# Altium schematic symbol library Chip_Tester.SchLib: 40 symbols
Pins are listed as number, name and electrical type; pins without a type are passive.

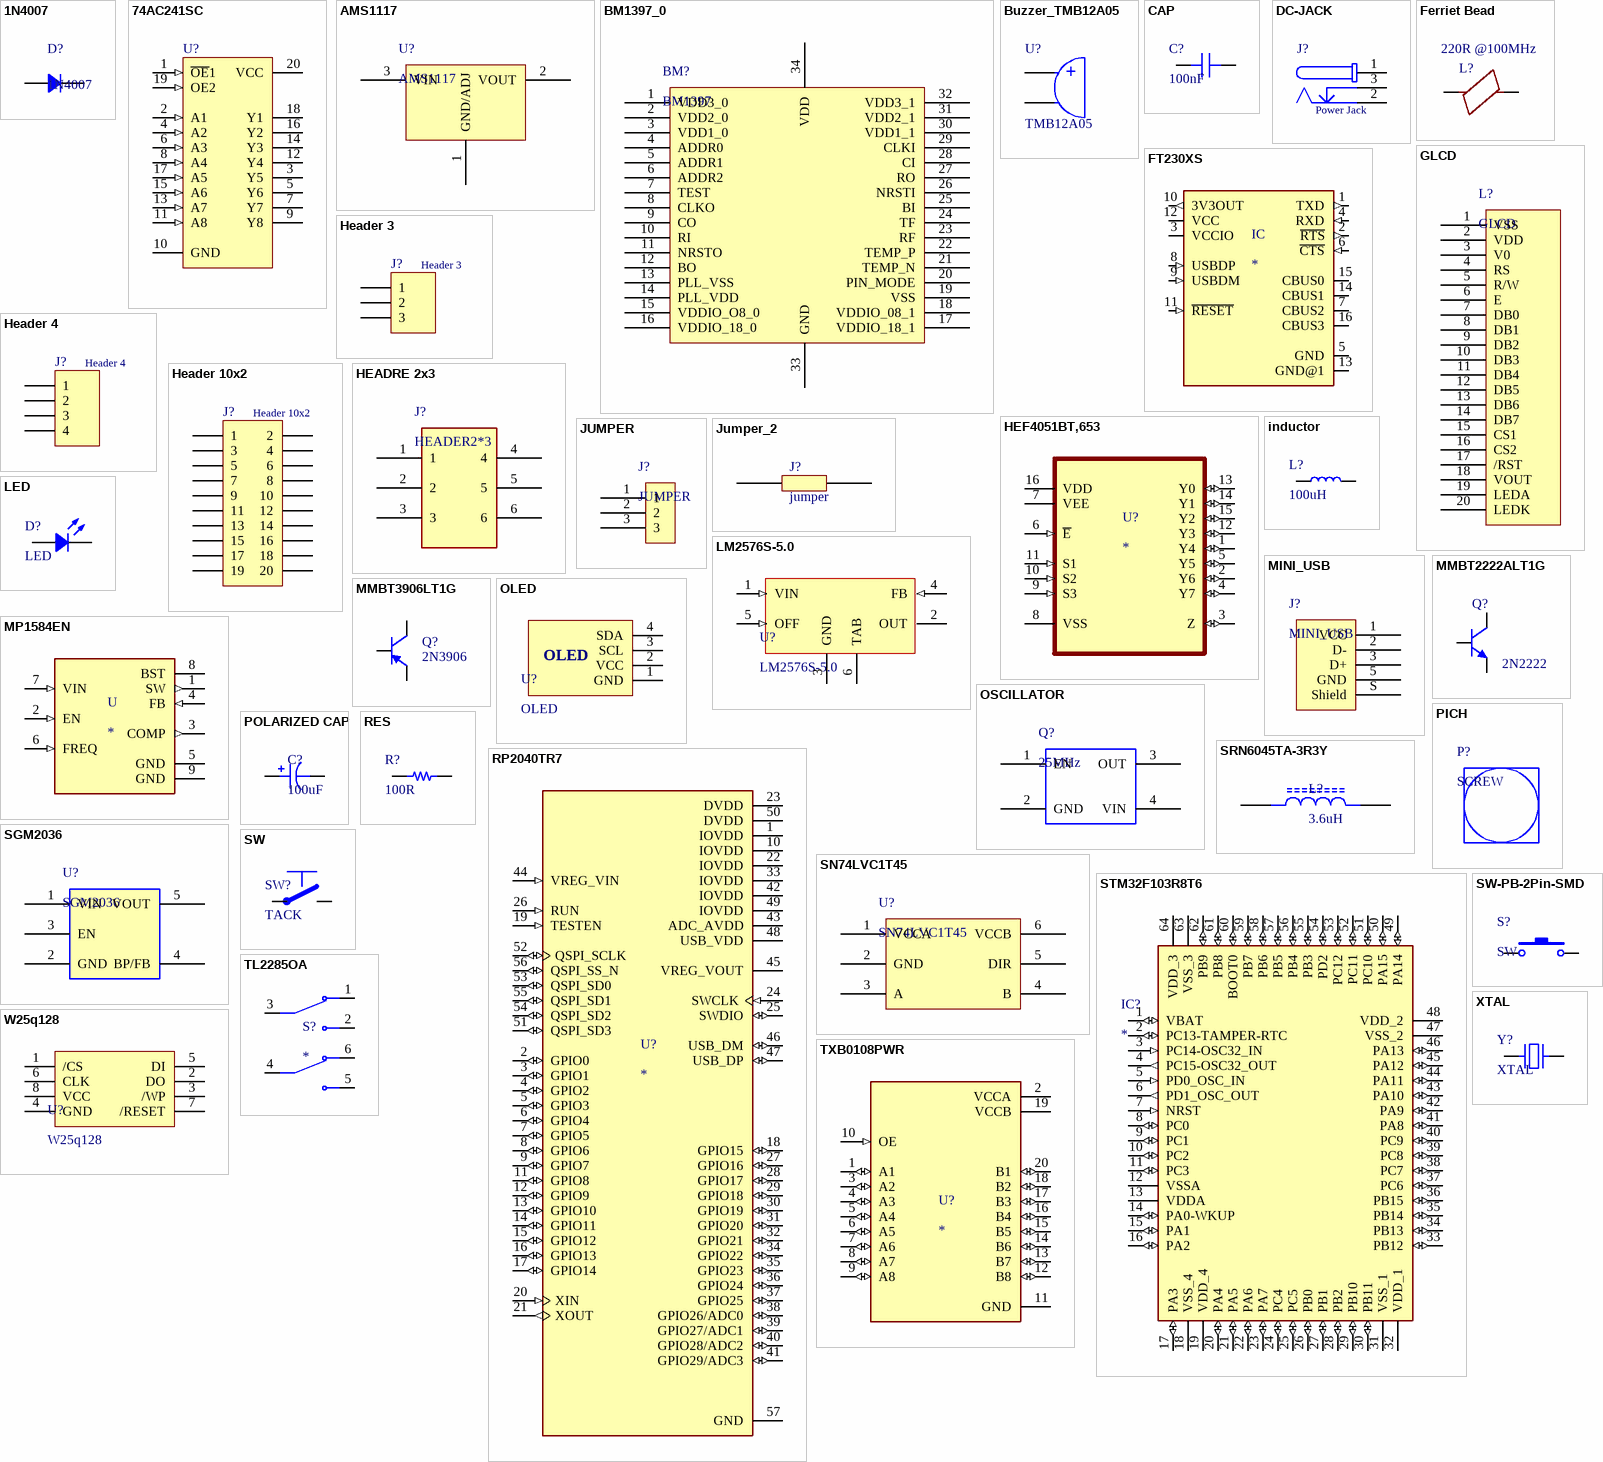
[diagram p0: symbols 1N4007 to XTAL]

## 1N4007
designator D?
footprint m7
pins: 1, 2

## 74AC241SC
designator U?
Octal Buffer/Line Driver with 3-State Output; Published: 17-Jul-2002; LatestRevisionDate: 13-Apr-2006; LatestRevisionNote: IPC-7351 Footprint Added.; DatasheetVersion: Nov-1999; PackageVersion: 2000; PackageReference: M20B; Publisher: Altium Limited; PackageDescription: 20-Pin Small Outline Integrated Circuit 1.27 mm Pitch; Code_JEDEC: MS-013-AC; Code_IPC: SOIC127P1030-20; ComponentLink1Description: Manufacturer Link; ComponentLink1URL: http://www.fairchildsemi.com/; ComponentLink2Description: Datasheet; ComponentLink2URL: http://www.fairchildsemi.com/ds/74%2F74AC241.pdf
footprint INTERSIL SOIC-20 WIDE (SOIC, 20-Leads, Body 12.80x7.50mm, Pitch 1.27mm, IPC Medium Density)
pins: 1 ~{OE}1 (in), 2 A1 (in), 3 Y5 (hiz), 4 A2 (in), 5 Y6 (hiz), 6 A3 (in), 7 Y7 (hiz), 8 A4 (in), 9 Y8 (hiz), 10 GND (power), 11 A8 (in), 12 Y4 (hiz), 13 A7 (in), 14 Y3 (hiz), 15 A6 (in), 16 Y2 (hiz), 17 A5 (in), 18 Y1 (hiz), 19 OE2 (in), 20 VCC (power)

## AMS1117
designator U?
AMS1117 1A LOW DROPOUT VOLTAGE REGULATOR
footprint AMS1117
pins: 1 GND/ADJ "Ground or Adjust", 2 VOUT "Voltage Output", 3 VIN "Voltage Input"

## BM1397_0
designator BM?, comment BM1397
footprint AllSocket
pins: 1 VDD3_0, 2 VDD2_0, 3 VDD1_0, 4 ADDR0, 5 ADDR1, 6 ADDR2, 7 TEST, 8 CLKO, 9 CO, 10 RI, 11 NRSTO, 12 BO, 13 PLL_VSS, 14 PLL_VDD, 15 VDDIO_O8_0, 16 VDDIO_18_0, 17 VDDIO_18_1, 18 VDDIO_08_1, 19 VSS, 20 PIN_MODE, 21 TEMP_N, 22 TEMP_P, 23 RF, 24 TF, 25 BI, 26 NRSTI, 27 RO, 28 CI, 29 CLKI, 30 VDD1_1, 31 VDD2_1, 32 VDD3_1, 33 GND, 34 VDD

## Buzzer_TMB12A05
designator U?, comment TMB12A05
Integrated Buzzer; Link to Datasheet: *; Link to Picture: *; Manufacturer: http://www.ehuaxing.com/; Operating Temp: -30°C ~ 75°C; Storage Temp: -40°C ~ 85°C; ComponentLink1URL: *; ComponentLink1Description: *; Manufacture Part #: TMB12A05; Value: TMB12A05
footprint BUZZER_TMB12A05 (Integrated Buzzer)
pins: 1, 2
text: +

## CAP
designator C?, comment 100nF
footprint CAP_SMD_0805
footprint CAP-SMD-0603
footprint CAP-SMD-0402
footprint CAP-SMD-1206
pins: 1, 2

## DC-JACK
designator J?, comment Power Jack
DC Power Jack Connector Low Profile with 4 soldering pads; Gender: Male; Plug Inner Diameter: 1.05 mm; Plug Outer Diameter: 3.5 mm; Rated Current: 5 A; Working Voltage: 18 V; Orientation: Right Angled; Operating Temperature: -40 to 85 degC; Mounting Technology: SMT
footprint DC-Jack-THT-RA-6.4 (DC Power Jack Right Angled(6.4))
pins: 1, 2, 3

## Ferriet Bead
designator L?, comment 220R @100MHz
General Porpose Ferriet Bead; Manufacturer: Murata; Tolerance: ±25%; Pakaging: *; ComponentLink1Description: *; ComponentLink1URL: *; Link to Datasheet: *; Link to Picture: *; Value: 220R @100MHz
footprint 0805_FB (Ferrite Bead)
pins: 1, 2

## FT230XS
designator IC
USB Bridge, USB to UART USB 2.0 UART Interface 16-SSOP; MP: FT230XS; MF: FTDI, Future; Price: None; Availability: Unavailable; Package: SSOP-16 FTDI; SnapEDA_Link: https://www.snapeda.com/parts/FT230XS/FTDI%2C%20Future%20Technology%20Devices%20International%20Ltd/view-part/433817/?ref=snap; Value: *
footprint SSOP16
pins: 1 TXD (out), 2 ~{RTS} (out), 3 VCCIO (power), 4 RXD (in), 5 GND (power), 6 ~{CTS} (in), 7 CBUS2 (io), 8 USBDP (in), 9 USBDM (in), 10 3V3OUT (out), 11 ~{RESET} (in), 12 VCC (power), 13 GND@1 (power), 14 CBUS1 (io), 15 CBUS0 (io), 16 CBUS3 (io)

## GLCD
designator L?
footprint LCD
pins: 1 VSS, 2 VDD, 3 V0, 4 RS, 5 R/W, 6 E, 7 DB0, 8 DB1, 9 DB2, 10 DB3, 11 DB4, 12 DB5, 13 DB6, 14 DB7, 15 CS1, 16 CS2, 17 /RST, 18 VOUT, 19 LEDA, 20 LEDK

## Header 3
designator J?
Header, single row, 3 pin
footprint HDR_THT_3M_2.54mm - duplicate (Pin Header, pitch 2.54 mm, THT, Vertical, single row, 3p)
pins: 1, 2, 3

## Header 4
designator J?
Header, single row, 4 pin
footprint HDR_THT_4M_2.54mm (Pin Header, pitch 2.54 mm, THT, Vertical, single row, 4p)
pins: 1, 2, 3, 4

## Header 10x2
designator J?
Header, dual row, 20 pin
footprint HDR_THT_10x2M_2.54mm (Pin Header, pitch 2.54 mm, THT, Vertical, dual row, 20p)
pins: 1, 2, 3, 4, 5, 6, 7, 8, 9, 10, 11, 12, 13, 14, 15, 16, 17, 18, 19, 20

## HEADRE 2x3
designator J?, comment HEADER2*3
footprint HEADER 2x3
pins: 1, 2, 3, 4, 5, 6

## HEF4051BT,653
designator U?
4000B Series 3 - 15 V 8-Ch Analog Multiplexer/Demultiplexer - SOIC-16; MF: Nexperia USA; MP: HEF4051BT,653; Value: *; Purchase-URL: https://pricing.snapeda.com/search/part/HEF4051BT,653/?ref=eda; Price: None; SnapEDA_Link: https://www.snapeda.com/parts/HEF4051BT,653/Nexperia/view-part/462214/?ref=snap; Check_prices: https://www.snapeda.com/parts/HEF4051BT,653/Nexperia/view-part/462214/?ref=eda; Availability: In Stock; Package: SO-16 Nexperia USA Inc.
footprint SOIC127P600X175-16N
pins: 1 Y4 (io), 2 Y6 (io), 3 Z (io), 4 Y7 (io), 5 Y5 (io), 6 ~{E} (in), 7 VEE (power), 8 VSS, 9 S3 (in), 10 S2 (in), 11 S1 (in), 12 Y3 (io), 13 Y0 (io), 14 Y1 (io), 15 Y2 (io), 16 VDD (power)

## inductor
designator L?, comment 100uH
footprint inductor
pins: 1, 2

## JUMPER
designator J?
footprint JUMPER_dip
pins: 1, 2, 3

## Jumper_2
designator J?, comment jumper
footprint jumper_2pin
pins: 1, 2

## LED
designator D?
footprint LED_0805_RED (Surface mount LED 0805)
pins: 1, 2

## LM2576S-5.0
designator U?
SIMPLE SWITCHER® 40V, 3A Low Component Count Step-Down Regulator 5-DDPAK/TO-263 -40 to 125; Manufacturer: TI National Semiconductor; Manufacturer Part Number: LM2576S-5.0/NOPB; Min Supply Voltage: 4V; Number of Outputs: 1; Output Voltage: 5V; Frequency: 52kHz; Switching Frequency: 58kHz; Efficiency: 77%; Quiescent Current: 5mA; Output Type: Fixed; Supplier 1: Digi-Key; RoHS: Yes; Category: Voltage Regulators - Switching; Stock 1: 747; Pricing 1: 1=4.79000, 10=4.30600, 25=4.07120, 100=3.52840, 250=3.34744, 500=3.00364, 1000=2.98725 (USD); Mount: Surface Mount; Case/Package: TO-263; Number of Pins: 5; Weight: 0.25lb; Contact Plating: Tin,Matte; Min Operating Temperature: -40°C; Max Operating Temperature: 125°C; Max Supply Voltage: 40V; Max Output Current: 3A; Packaging: Rail/Tube; Min Input Voltage: 4V; Max Input Voltage: 40V; Output Current: 3A; Package Quantity: 45; Nominal Output Voltage: 5V; Max Output Voltage: 5V; Termination: SMD/SMT; Series: LM2576; Length: 10.16mm; Width: 8.64mm; Height: 4.57mm; Radiation Hardening: No; REACH SVHC: No SVHC; Lead Free: Contains Lead; RoHS Compliant: Yes; ComponentLink1URL: https://datasheet.ciiva.com/27050/894690-27050690.pdf?src-supplier=Jameco; ComponentLink1Description: https://datasheet.ciiva.com/27050/894690-27050690.pdf?src-supplier=Jameco; ComponentLink2URL: https://datasheet.ciiva.com/15112/getdatasheetpartid-89880-15112831.pdf?src-supplier=Verical; ComponentLink2Description: https://datasheet.ciiva.com/15112/getdatasheetpartid-89880-15112831.pdf?src-supplier=Verical; ComponentLink3URL: https://datasheet.ciiva.com/6596/lm2576hv-6596629.pdf?src-supplier=Digi-Key; ComponentLink3Description: https://datasheet.ciiva.com/6596/lm2576hv-6596629.pdf?src-supplier=Digi-Key; ComponentLink4URL: https://datasheet.ciiva.com/16466/lm2576-16466309.pdf?src-supplier=Avnet+Asia; ComponentLink4Description: https://datasheet.ciiva.com/16466/lm2576-16466309.pdf?src-supplier=Avnet+Asia; ComponentLink5URL: https://datasheet.ciiva.com/7994/1849802-7994190.pdf?src-supplier=Element14; ComponentLink5Description: https://datasheet.ciiva.com/7994/1849802-7994190.pdf?src-supplier=Element14; Supplier Part Number 1: LM2576S-5.0/NOPB-ND
footprint LM2576
pins: 1 VIN (in), 2 OUT (power), 3 GND (power), 4 FB (in), 5 OFF (in), 6 TAB

## MINI_USB
designator J?
footprint Mini_usb
pins: 1 VCC, 2 D-, 3 D+, 5 GND, S Shield

## MMBT2222ALT1G
designator Q?, comment 2N2222
NPN General Purpose Amplifier; Manufacturer: FAIRCHILD; Manufacture Part #: MMBT2222ALT1G; Link to Datasheet: *; Link to Picture: *; Operating Temp: -55 TO 150 °C; Storage Temp: -55 TO 150 °C; ComponentLink1URL: *; ComponentLink1Description: *; Value: 2N2222
footprint SOT-23_H (SOT23, 3-Leads, Body 2.9x1.3mm, Pitch 0.95mm, Lead Span 2.5mm, IPC Medium Density)
pins: 1 B, 2 E, 3 C

## MMBT3906LT1G
designator Q?, comment 2N3906
PNP General Purpose Amplifier; Manufacturer: ON Semiconductor; Manufacture Part #: MMBT3906LT1G; Link to Datasheet: *; Link to Picture: *; Operating Temp: -55 ~ 150 °C; Storage Temp: -55 ~ 150 °C; ComponentLink1Description: *; ComponentLink1URL: *; Value: 2N3906
footprint SOT-23_H (SOT23, 3-Leads, Body 2.9x1.3mm, Pitch 0.95mm, Lead Span 2.5mm, IPC Medium Density)
pins: 1 B, 2 E, 3 C

## MP1584EN
designator U
Buck Switching Regulator IC Positive Adjustable 0.8V 1 Output 3A 8-SOIC _0.154, 3.90mm Width_ Exposed Pad; MP: MP1584EN; MF: Monolithic Power; Value: *; Package: SOIC-8 Monolithic Power; SnapEDA_Link: https://www.snapeda.com/parts/MP1584EN/Monolithic%20Power%20Systems%20Inc./view-part/891721/?ref=snap; Price: None; Availability: Unavailable
footprint SOIC127P600X170-9N
pins: 1 SW (out), 2 EN (in), 3 COMP (out), 4 FB (in), 5 GND (power), 6 FREQ (in), 7 VIN (in), 8 BST, 9 GND (power)

## OLED
designator U?
footprint OLED
pins: 1 GND, 2 VCC, 3 SCL, 4 SDA

## OSCILLATOR
designator Q?, comment 25MHz
footprint XTALL
pins: 1 EN, 2 GND, 3 OUT, 4 VIN

## PICH
designator P?, comment SCREW
footprint PICH

## POLARIZED CAP
designator C?, comment 100uF
footprint CAP-TAN-CASE-B
footprint CAP-TAN-CASE-E
footprint CAP-TAN-CASE-A
footprint CAP ALUM 10.3MM (Aluminum Electrolytic Capacitor, Body 10.30x10.30x10.50mm, IPC Low Density)
pins: 1, 2

## RES
designator R?, comment 100R
footprint RES-SMD-1210
footprint RES-SMD-1206
footprint RES-SMD-0402
footprint RES-SMD-0603
footprint RES-SMD-0805
pins: 1, 2

## RP2040TR7
designator U?
MCU, 32BIT, 133MHZ, QFN-56; Product Range:-; Architecture:ARM Cortex-M0+; No. of Bits:32bit; CPU Speed:133MHz; Program Memory Size:16MB; RAM Memory Size:264KB; No. of Pins:56Pins; MCU Case Style:QFN; No. of I/O s:30I/O s; MP: RP2040TR7; MF: Raspberry Pi; SnapEDA_Link: https://www.snapeda.com/parts/RP2040TR7/Raspberry+Pi/view-part/?ref=snap; Value: *; Availability: In Stock; Check_prices: https://www.snapeda.com/parts/RP2040TR7/Raspberry+Pi/view-part/?ref=eda; Package: None; Price: None
footprint RP2040-57N
pins: 1 IOVDD (power), 2 GPIO0 (io), 3 GPIO1 (io), 4 GPIO2 (io), 5 GPIO3 (io), 6 GPIO4 (io), 7 GPIO5 (io), 8 GPIO6 (io), 9 GPIO7 (io), 10 IOVDD (power), 11 GPIO8 (io), 12 GPIO9 (io), 13 GPIO10 (io), 14 GPIO11 (io), 15 GPIO12 (io), 16 GPIO13 (io), 17 GPIO14 (io), 18 GPIO15 (io), 19 TESTEN (in), 20 XIN (in), 21 XOUT (out), 22 IOVDD (power), 23 DVDD (power), 24 SWCLK (in), 25 SWDIO (io), 26 RUN (in), 27 GPIO16 (io), 28 GPIO17 (io), 29 GPIO18 (io), 30 GPIO19 (io), 31 GPIO20 (io), 32 GPIO21 (io), 33 IOVDD (power), 34 GPIO22 (io), 35 GPIO23 (io), 36 GPIO24 (io), 37 GPIO25 (io), 38 GPIO26/ADC0 (io), 39 GPIO27/ADC1 (io), 40 GPIO28/ADC2 (io), 41 GPIO29/ADC3 (io), 42 IOVDD (power), 43 ADC_AVDD (power), 44 VREG_VIN (in), 45 VREG_VOUT, 46 USB_DM (io), 47 USB_DP (io), 48 USB_VDD (power), 49 IOVDD (power), 50 DVDD (power), 51 QSPI_SD3 (io), 52 QSPI_SCLK (io), 53 QSPI_SD0 (io), 54 QSPI_SD2 (io), 55 QSPI_SD1 (io), 56 QSPI_SS_N (io), 57 GND (power)

## SGM2036
designator U?
footprint SOT23-5PIN
pins: 1 VIN, 2 GND, 3 EN, 4 BP/FB, 5 VOUT

## SN74LVC1T45
designator U?
footprint SOT23-6PIN
pins: 1 VCCA, 2 GND, 3 A, 4 B, 5 DIR, 6 VCCB

## SRN6045TA-3R3Y
designator L?, comment 3.6uH
3.3µH Semi-Shielded Wirewound Inductor 5A 21mOhm Nonstandard
footprint SRN6045TA
pins: 1, 2

## STM32F103R8T6
designator IC?
ARMÂ® CortexÂ®-M3 STM32F1 Microcontroller IC 32-Bit 72MHz 64KB (64K x 8) FLASH 64-LQFP (10x10); MF: STMicroelectronics; MP: STM32F103R8T6; Price: None; Package: LQFP-64 STMicroelectronics; Purchase-URL: https://pricing.snapeda.com/search/part/STM32F103R8T6/?ref=eda; Availability: In Stock; SnapEDA_Link: https://www.snapeda.com/parts/STM32F103R8T6/STMicroelectronics/view-part/?ref=snap; Value: *; Check_prices: https://www.snapeda.com/parts/STM32F103R8T6/STMicroelectronics/view-part/?ref=eda
footprint QFP50P1200X1200X160-64N
pins: 1 VBAT (io), 2 PC13-TAMPER-RTC (io), 3 PC14-OSC32_IN (in), 4 PC15-OSC32_OUT (out), 5 PD0_OSC_IN (in), 6 PD1_OSC_OUT (out), 7 NRST (in), 8 PC0 (io), 9 PC1 (io), 10 PC2 (io), 11 PC3 (io), 12 VSSA (power), 13 VDDA (power), 14 PA0-WKUP (io), 15 PA1 (io), 16 PA2 (io), 17 PA3 (io), 18 VSS_4 (power), 19 VDD_4 (power), 20 PA4 (io), 21 PA5 (io), 22 PA6 (io), 23 PA7 (io), 24 PC4 (io), 25 PC5 (io), 26 PB0 (io), 27 PB1 (io), 28 PB2 (io), 29 PB10 (io), 30 PB11 (io), 31 VSS_1 (power), 32 VDD_1 (power), 33 PB12 (io), 34 PB13 (io), 35 PB14 (io), 36 PB15 (io), 37 PC6 (io), 38 PC7 (io), 39 PC8 (io), 40 PC9 (io), 41 PA8 (io), 42 PA9 (io), 43 PA10 (io), 44 PA11 (io), 45 PA12 (io), 46 PA13 (io), 47 VSS_2 (power), 48 VDD_2 (power), 49 PA14 (io), 50 PA15 (io), 51 PC10 (io), 52 PC11 (io), 53 PC12 (io), 54 PD2 (io), 55 PB3 (io), 56 PB4 (io), 57 PB5 (io), 58 PB6 (io), 59 PB7 (io), 60 BOOT0 (io), 61 PB8 (io), 62 PB9 (io), 63 VSS_3 (power), 64 VDD_3 (power)

## SW
designator SW?, comment TACK
footprint TACK
pins: 1, 2 1, 3 2, 4 2

## SW-PB-2Pin-SMD
designator S?, comment SW
SMT Tactile ‎Switch
footprint SW_PB_SMD_2PIN_SPST_6X3X5 (SWITCH, PUSHBUTTON, SMD, SPST, 6X3.5mm, SKQMBBE010, 50000 Cycles, 1.57N Force)
footprint TACK
pins: 1, 2

## TL2285OA
designator S?
Pushbutton Switch DPDT Standard Through Hole; MP: TL2285OA; MF: E-Switch; Package: None; Availability: In Stock; Check_prices: https://www.snapeda.com/parts/TL2285OA/E-Switch/view-part/?ref=eda; Purchase-URL: https://pricing.snapeda.com/search/part/TL2285OA/?ref=eda; Value: *; SnapEDA_Link: https://www.snapeda.com/parts/TL2285OA/E-Switch/view-part/?ref=snap; Price: None
footprint SW_TL2285OA
pins: 1 NC1, 2 NO1, 3 COM1, 4 COM2, 5 NO2, 6 NC2

## TXB0108PWR
designator U?
8-Bit Bidirectional Voltage-Level Shifter with Auto Direction Sensing and +/-15-kV ESD Protect; MP: TXB0108PWR; MF: Texas Instruments; SnapEDA_Link: https://www.snapeda.com/parts/TXB0108PWR/Texas+Instruments/view-part/?ref=snap; Package: TSSOP-20 Texas Instruments; Check_prices: https://www.snapeda.com/parts/TXB0108PWR/Texas+Instruments/view-part/?ref=eda; Purchase-URL: https://pricing.snapeda.com/search/part/TXB0108PWR/?ref=eda; Digi-Key_Part_Number: 296-21527-2-ND; Value: *
footprint SOP65P640X120-20N
pins: 1 A1 (io), 2 VCCA (power), 3 A2 (io), 4 A3 (io), 5 A4 (io), 6 A5 (io), 7 A6 (io), 8 A7 (io), 9 A8 (io), 10 OE (in), 11 GND (power), 12 B8 (io), 13 B7 (io), 14 B6 (io), 15 B5 (io), 16 B4 (io), 17 B3 (io), 18 B2 (io), 19 VCCB (power), 20 B1 (io)

## W25q128
designator U?
footprint WINBOND SOIC-8 (SOIC, 8-Leads, Body 4.90x3.90mm, Pitch 1.27mm, IPC Medium Density)
pins: 1 /CS, 2 DO, 3 /WP, 4 GND, 5 DI, 6 CLK, 7 /RESET, 8 VCC

## XTAL
designator Y?
Crystal 8MHz ±50ppm (Tol) ±50ppm (Stability) 20pF FUND 40Ohm 2-Pin HC-49 Thru-Hole Loose; Manufacturer: IQD; Manufacturer Part Number: LFXTAL078428BULK; Supplier 1: Digi-Key; RoHS: No; Stock 1: 784; Pricing 1: 1=0.50000, 10=0.42000, 50=0.37800, 100=0.33600, 500=0.31920, 1000=0.26880, 2500=0.25200, 5000=0.24360, 10000=0.23520 (USD); Supplier Part Number 1: 1923-1403-ND
footprint XTAL_SMD
footprint XTAL_RTC_H
pins: 1, 2